# Altium schematic symbol library CRCW120622R0JNEAHP.SchLib: 1 symbol
Pins are listed as number, name and electrical type; pins without a type are passive.

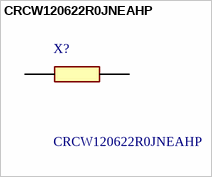
[diagram p0: symbol CRCW120622R0JNEAHP]

## CRCW120622R0JNEAHP
designator X?
Thick Film Resistors - SMD 3/4watt 22ohms 5% High Power AEC-Q200; Manufacturer_Name: Vishay; Geometry.Height: 0.65mm; Mouser Part Number: 71-CRCW120622R0JNEAH; Mouser Price/Stock: https://www.mouser.co.uk/ProductDetail/Vishay-Dale/CRCW120622R0JNEAHP?qs=k2%2FDWSARqgE%252BqJTlPdiKFQ%3D%3D; Manufacturer_Part_Number: CRCW120622R0JNEAHP; Datasheet Link: http://componentsearchengine.com/Datasheets/1/CRCW120622R0JNEAHP.pdf
footprint RESC3116X65N
pins: 1, 2